# Altium footprint library SODFL3818X130N.PcbLib: 1 footprints
Each footprint in its own frame and in the unit in brackets; x right, y up, seen from the top. Pads: shape width x height; smd on the part's side, far side on the other; paste and mask are expansions set on the pad; w line width, h text height; cw(c..) or ccw(c..) is an arc to the next point about the centre after c.
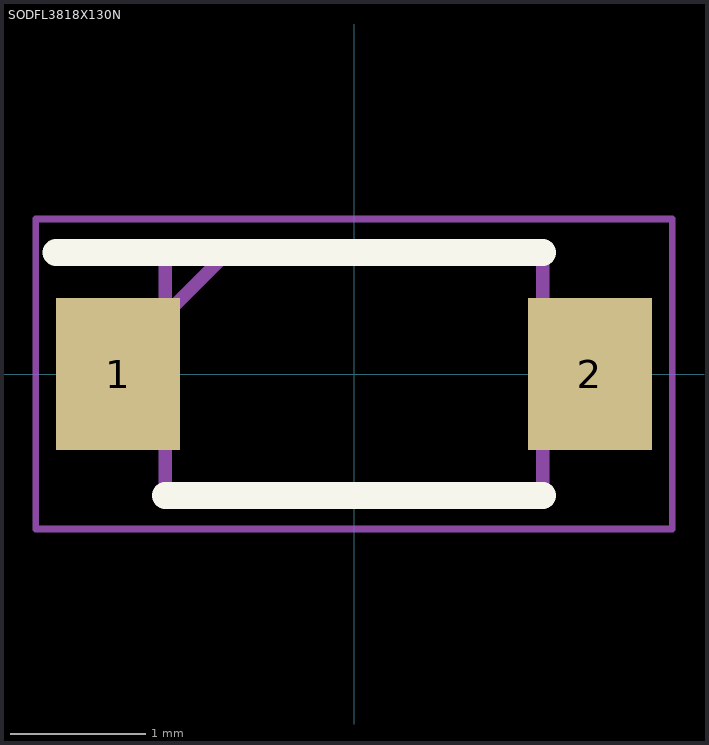
[diagram p0: the footprint, top view; thin cyan lines are the x and y axes]

## SODFL3818X130N [mm]
pads (2):
  rect 0.92x1.13 smd: 1(-1.75,0) 2(1.75,0)
Top Overlay:
  lines w0.2: -2.21,0.9 1.4,0.9 ; -1.4,-0.9 1.4,-0.9
Mechanical 13:
  lines w0.05: -2.36,-1.15 -2.36,1.15 2.36,1.15 2.36,-1.15 -2.36,-1.15
  lines w0.1: -1.4,0.44 -0.94,0.9 ; -1.4,-0.9 -1.4,0.9 1.4,0.9 1.4,-0.9 -1.4,-0.9
3D body "1N4007W--3DModel-STEP-269445.STEP": height 1.3, standoff 0, extent -1.9,-0.9 1.9,0.9